# Altium schematic symbol library Interface.SchLib: 28 symbols
Pins are listed as number, name and electrical type; pins without a type are passive.

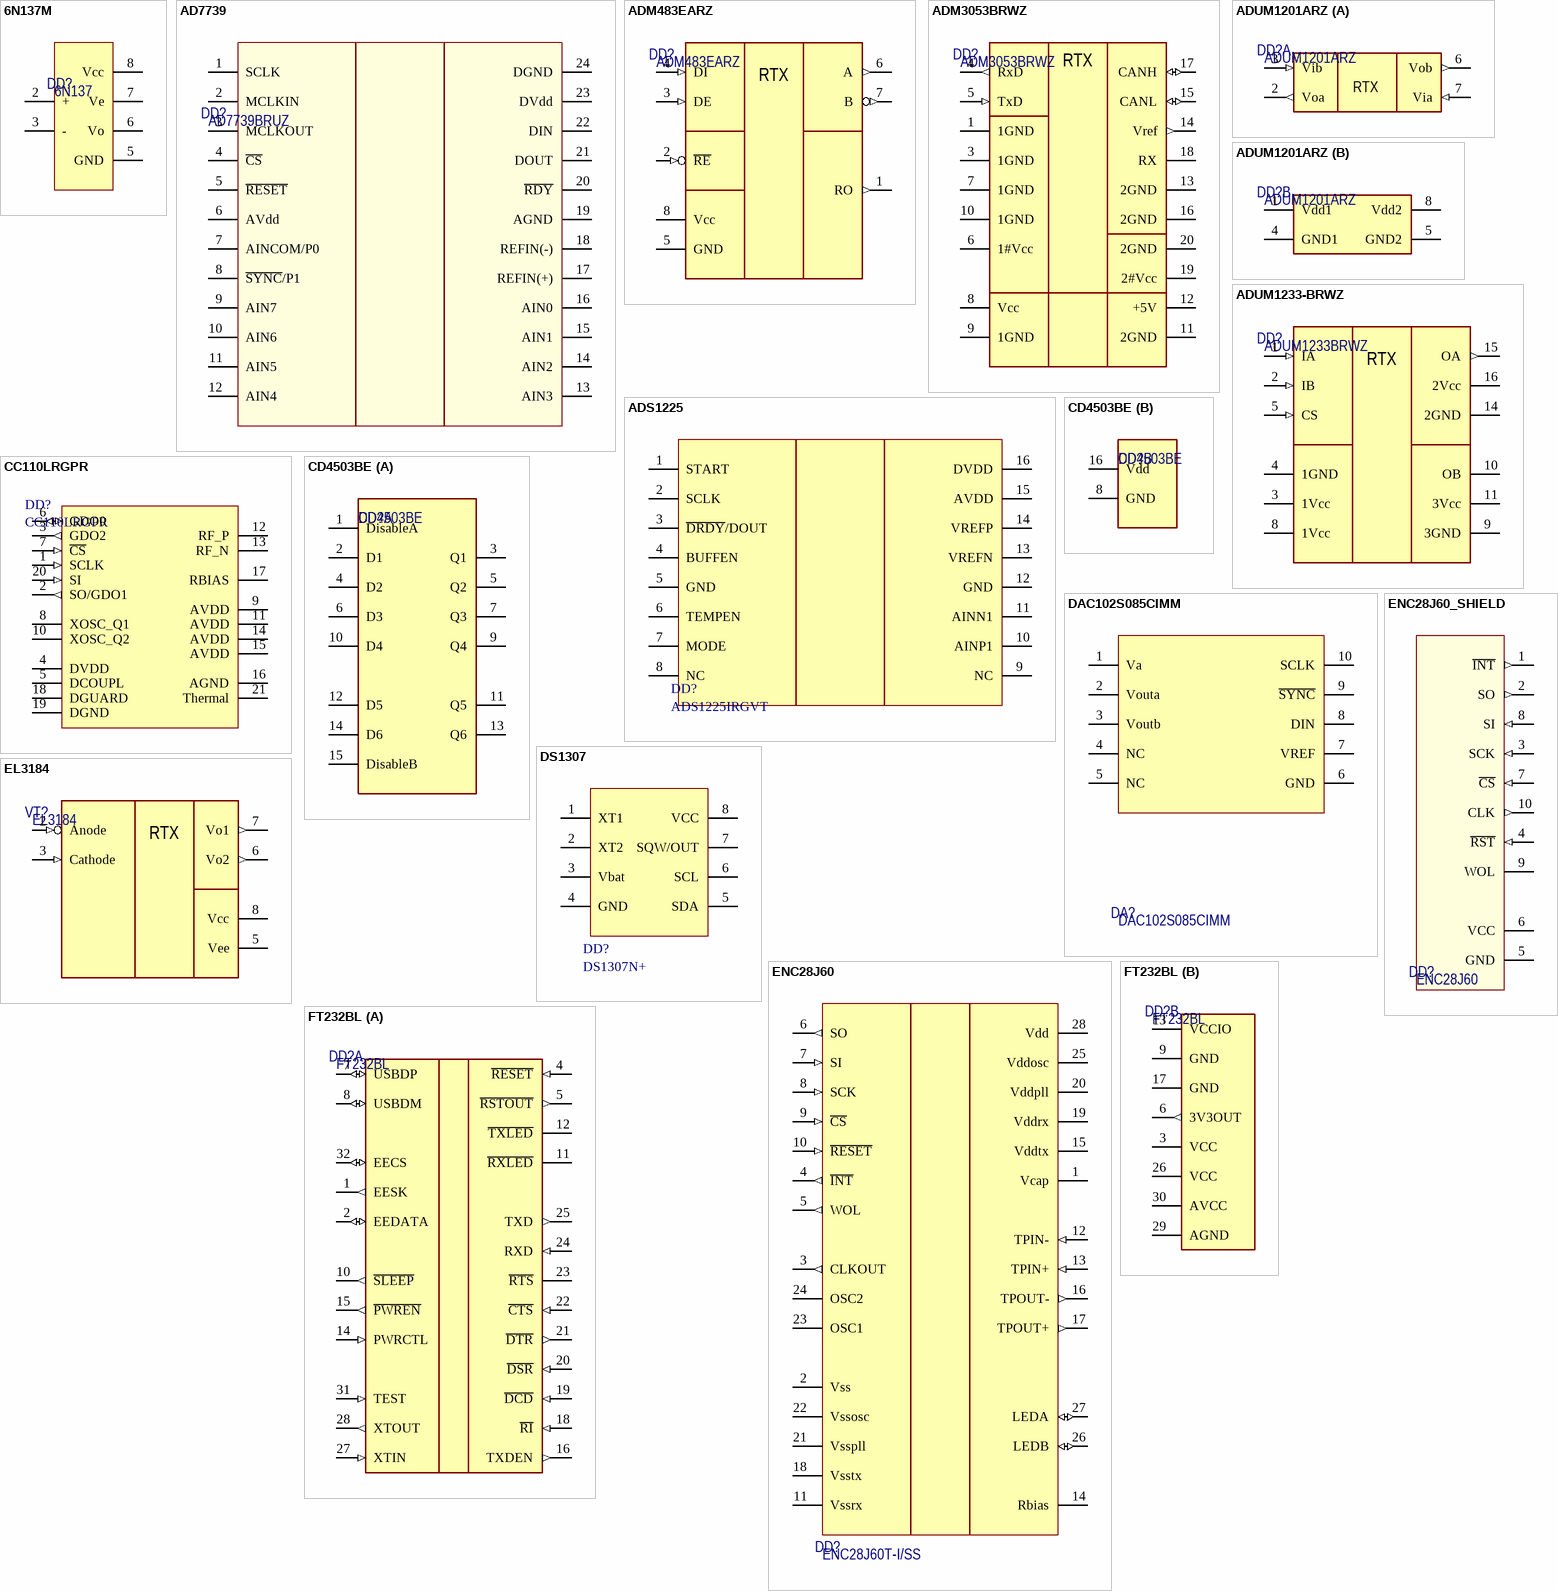
[diagram p0: symbols 6N137M to FT232BL]

## 6N137M
designator DD?, comment 6N137
Optocoupler; Manufacturer: Fairchild; ManufacturerPartNumber: 6N137M; Package: DIP-8; Price: 30.26; Note: 6N137; Supplier: Промэлектроника
footprint DIP8
pins: 2 + "Input diode Anode", 3 - "Input diode Cathode", 5 GND (power) "Input diode Anode", 6 Vo (oc) "Input diode Anode", 7 Ve "Enable", 8 Vcc (power) "Power input"

## AD7739
designator DD?, comment AD7739BRUZ
IC ADC 24BIT 8-CH 24-TSSOP; Manufacturer: Analog Devices Inc.; ManufacturerPartNumber: AD7739BRUZ; ComponentLink1URL: http://www.analog.com/media/en/technical-documentation/data-sheets/AD7739.pdf; ComponentLink1Description: http://www.analog.com/media/en/technical-documentation/data-sheets/AD7739.pdf; Note: *; Price: 900; Supplier: *
footprint TSSOP-RU-24 (TSOP, 24-Leads, Body 7,80x4,40mm, Pitch 0,65mm, IPC Low Density)
pins: 1 SCLK, 2 MCLKIN, 3 MCLKOUT, 4 ~{CS}, 5 ~{RESET}, 6 AVdd, 7 AINCOM/P0, 8 ~{SYNC}/P1, 9 AIN7, 10 AIN6, 11 AIN5, 12 AIN4, 13 AIN3, 14 AIN2, 15 AIN1, 16 AIN0, 17 REFIN(+), 18 REFIN(-), 19 AGND, 20 ~{RDY}, 21 DOUT, 22 DIN, 23 DVdd, 24 DGND

## ADM483EARZ
designator DD?
Isolator interface; Manufacturer: Analog Devices Inc.; Package: DIP-8; ComponentLink1URL: http://www.analog.com/static/imported-files/data_sheets/ADM483E.pdf; ComponentLink1Description: Datasheet; Price: 62,10; Supplier: Промэлектроника; ComponentLink2Description: Datasheet-local; ManufacturerPartNumber: ADM483EARZ
footprint DIP8
pins: 1 RO (out), 2 ~{RE} (in), 3 DE (in), 4 DI (in), 5 GND (power), 6 A (out), 7 B (out), 8 Vcc (power)
2 alternate drawings of the same symbol
text: RTX

## ADM3053BRWZ
designator DD?
CAN; Manufacturer: Analog Devices Inc; Package: SOIC-20; ComponentLink1Description: Datasheet; ComponentLink1URL: http://www.analog.com/static/imported-files/data_sheets/ADM3053.pdf; Price: 310; Supplier: Аргуссофт; ComponentLink2URL: .\datasheet\ADM3053.pdf; ComponentLink2Description: Datasheet-local; ManufacturerPartNumber: ADM3053BRWZ
footprint SOIC_W (20-Lead SOIC_W, Body 12,80x7,50mm, Pitch 1,27mm, IPC Low Density)
pins: 1 1GND (power) "GND1", 3 1GND (power) "GND1", 4 RxD (out), 5 TxD (in), 6 1#Vcc (power) "Vio", 7 1GND (power) "GND1", 8 Vcc (power), 9 1GND (power) "GND1", 10 1GND (power) "GND1", 11 2GND, 12 +5V "Visoout", 13 2GND (power) "GND2", 14 Vref (out), 15 CANL (io), 16 2GND, 17 CANH (io), 18 RX "Rs", 19 2#Vcc "Visoin", 20 2GND
text: RTX

## ADS1225
designator DD?, comment ADS1225IRGVT
IC ADC 24-BIT 16/100SPS 16-VQFN; Manufacturer: Texas Instruments (TI); Min Supply Voltage: 2.7V; Max Supply Voltage: 5.5V; Max Power Dissipation: 2.5mW; Interface: SPI,Serial,2-Wire; Sampling Rate: 100S/s; Number of A/D Converters: 1; Resolution: 24b; Polarity: Bipolar; Power Dissipation: 1.6mW; Supply Voltage: 5V; Number of Bits: 24; Nominal Supply Current: 405uA; Supply Type: Analog,Digital; Differential Nonlinearity: 1LSB; Supplier 1: Digikey; ManufacturerPartNumber: ADS1225IRGVT; Stock 1: 0; Pricing 1: 250=4.896, 500=4.464, 1250=3.6 (USD); Mount: Surface Mount; Case/Package: QFN; Number of Pins: 16; Contact Plating: Gold; Min Operating Temperature: -40°C; Max Operating Temperature: 105°C; Packaging: Tape and Reel; Package Quantity: 250; Number of Converters: 1; Number of Analog Inputs: 1; Conversion Rate: 100S/s; Power Consumption: 1.6mW; Number of Channels: 1; Number of Circuits: 1; Number of Elements: 1; Number of Inputs: 1; Length: 4mm; Height: 0.9mm; Width: 4mm; Lead Free: Lead Free; REACH SVHC: No SVHC; ComponentLink1URL: https://datasheet.ciiva.com/26801/ads1225irgvt-26801479.pdf; ComponentLink1Description: https://datasheet.ciiva.com/26801/ads1225irgvt-26801479.pdf; ComponentLink2URL: https://datasheet.ciiva.com/1261/ads1225-1261992.pdf; ComponentLink2Description: https://datasheet.ciiva.com/1261/ads1225-1261992.pdf; ComponentLink3URL: https://datasheet.ciiva.com/1261/ads1225-1261993.pdf; ComponentLink3Description: https://datasheet.ciiva.com/1261/ads1225-1261993.pdf; ComponentLink4URL: https://datasheet.ciiva.com/1261/ads1225-1261991.pdf; ComponentLink4Description: https://datasheet.ciiva.com/1261/ads1225-1261991.pdf; ComponentLink5URL: https://datasheet.ciiva.com/41461/001186706-da-01-en-ic-adc-24-bit-1-ads1225irgvt-vqfn-16-tid-41461046.pdf; ComponentLink5Description: https://datasheet.ciiva.com/41461/001186706-da-01-en-ic-adc-24-bit-1-ads1225irgvt-vqfn-16-tid-41461046.pdf; Supplier Part Number 1: 296-19857-2-ND
footprint PQFN65P400X400X100_HS-17N (PQFN, 16-Leads, Body 4,00x4,00mm, Pitch 0,65mm, Thermal Pad 2,16x2,16mm, IPC Medium Density)
pins: 1 START, 2 SCLK, 3 ~{DRDY}/DOUT, 4 BUFFEN, 5 GND, 6 TEMPEN, 7 MODE, 8 NC, 9 NC, 10 AINP1, 11 AINN1, 12 GND, 13 VREFN, 14 VREFP, 15 AVDD, 16 DVDD

## ADUM1201ARZ
designator DD?
Digital Isolator Logic 2-CH 1Mbps 8-Pin SOIC N; Manufacturer: Analog Devices Inc.; Package: SOIC-8; ComponentLink1URL: http://www.analog.com/static/imported-files/data_sheets/ADuM1200_1201.pdf; ComponentLink1Description: Datasheet; Price: ?; Supplier: Промэлектроника; ManufacturerPartNumber: ADUM1201ARZ
footprint AD711JRZ (8-Lead Standard Small Outline Package [SOIC]  Narrow Body  (RN-8))
part A pins: 2 Voa (out), 3 Vib (in), 6 Vob (out), 7 Via (in)
part B pins: 1 Vdd1 (power), 4 GND1 (power), 5 GND2 (power), 8 Vdd2 (power)
part A text: RTX

## ADUM1233-BRWZ
designator DD?, comment ADUM1233BRWZ
Isolator interface; Manufacturer: Analog Devices Inc.; Package: SOIC-16; ComponentLink1URL: http://www.analog.com/static/imported-files/data_sheets/ADUM1233.pdf; ComponentLink1Description: Datasheet; Price: 90; Supplier: Аргуссофт; ManufacturerPartNumber: ADUM1233BRWZ
footprint ADUM1233-BRWZ (16-Lead Standard Small Outline Package [SOIC_W]   Wide Body   (RW-16))
pins: 1 IA (in) "Via (Logic Input A)", 2 IB (in) "Vib (Logic Input B)", 3 1Vcc (power) "Vdd1 (Input Supply Voltage)", 4 1GND (power) "Ground Reference for logic signals", 5 CS (in) "DISABLE (Input Disalbe. Disable the isolator input and refresh circuits)", 8 1Vcc (power) "Vdd1 (Input Supply Voltage, 4.5 to 5.5V)", 9 3GND (power) "GNDb (Ground reference for Output B)", 10 OB (power) "Vob (Output B)", 11 3Vcc (power) "Vddb (Output B Supply voltage, 12V to 18V)", 14 2GND (power) "GNDa (Ground reference for Output A)", 15 OA (out) "Voa (Output A)", 16 2Vcc (power) "Vdda (Output A Supply voltage, 12V to 18V)"
text: RTX

## CC110LRGPR
designator DD?
IC RF VALUE LINE TXRX 20QFN; Manufacturer: Texas Instruments; Data Rate: 600Kbps; Frequency: 915MHz; Interface: SPI; Number of Receivers: 1; Max Supply Voltage: 3.6V; Min Supply Voltage: 1.8V; Sensitivity: -116dBm; Max Frequency: 928MHz; Density: 0B; Current - Receiving: 17.1mA; Current - Transmitting: 34.2mA; Supplier 1: Avnet; Manufacturer Part Number: CC110LRGPR; Stock 1: 3000; Pricing 1: 1=3.7881, 30=3.3748, 75=3.1453, 150=2.8775, 375=2.5254, 750=2.4423, 1500=2.4362 (USD); Mount: Surface Mount; Case/Package: VQFN EP; Number of Pins: 20; Weight: 0.002469oz; Contact Plating: Nickel,Gold; Min Operating Temperature: -40°C; Max Operating Temperature: 85°C; Package Quantity: 3000; Packaging: Tape and Reel; Number of Transmitters: 1; Length: 4.15mm; Depth: 4.15mm; Radiation Hardening: No; REACH SVHC: No SVHC; Lead Free: Lead Free; ComponentLink1URL: https://datasheet.ciiva.com/26933/getdatasheetpartid-731781-26933479.pdf; ComponentLink1Description: https://datasheet.ciiva.com/26933/getdatasheetpartid-731781-26933479.pdf; ComponentLink2URL: https://datasheet.ciiva.com/46417/1816570-46417702.pdf; ComponentLink2Description: https://datasheet.ciiva.com/46417/1816570-46417702.pdf; ComponentLink3URL: https://datasheet.ciiva.com/46417/1816570-46417701.pdf; ComponentLink3Description: https://datasheet.ciiva.com/46417/1816570-46417701.pdf; Supplier Part Number 1: CC110LRGPR/BKN
footprint PQFN20 (PQFN, 20-Leads, Body 4,00x4,00mm, Pitch 0,50mm, Thermal Pad 2,40x2,40mm, IPC Medium Density)
pins: 1 SCLK (in) "Serial configuration interface, clock input", 2 SO/GDO1 (out) "Serial configuration interface, data output", 3 GDO2 (out) "Digital output pin for general use:", 4 DVDD (power) "1.8 - 3.6 V digital power supply for digital I/O's and for the digital core voltage regulator", 5 DCOUPL (power) "1.6 - 2.0 V digital power supply output for decoupling", 6 GDO0 (io) "Digital output pin for general use:", 7 ~{CS} (in) "Serial configuration interface, chip select", 8 XOSC_Q1 "Designator	Name	Desc	PQFN20	Type	Owner	Show	Number	Name	Pin/Pkg Length", 9 AVDD (power) "1.8 - 3.6 V analog power supply connection", 10 XOSC_Q2 "Crystal oscillator pin 2", 11 AVDD (power) "1.8 - 3.6 V analog power supply connection", 12 RF_P "Positive RF input signal to LNA in receive mode. from PA in transmit mode", 13 RF_N "Negative RF input signal to LNA in receive mode. from PA in transmit mode", 14 AVDD (power) "1.8 - 3.6 V analog power supply connection", 15 AVDD (power) "1.8 - 3.6 V analog power supply connection", 16 AGND (power) "Analog ground connection", 17 RBIAS (power) "Exernal bias resistor for reference current", 18 DGUARD (power) "Power supply connection for digital noise isolation", 19 DGND (power) "Ground connection for digital noise isolation", 20 SI (in) "Serial configuration inerface, data input", 21 Thermal (power) "Thermal pad"

## CD4503BE
designator DD?
Буферы и линейные аппаратные драйверы Tri-State Hex; Manufacturer: Texas Instruments; ManufacturerPartNumber: CD4503BE; ComponentLink1URL: http://www.mouser.com/ds/2/405/cd4503b-439724.pdf; ComponentLink1Description: http://www.mouser.com/ds/2/405/cd4503b-439724.pdf; Note: *; Price: 20; Supplier: *
footprint DIP16
part A pins: 1 DisableA, 2 D1, 3 Q1, 4 D2, 5 Q2, 6 D3, 7 Q3, 9 Q4, 10 D4, 11 Q5, 12 D5, 13 Q6, 14 D6, 15 DisableB
part B pins: 8 GND, 16 Vdd

## DAC102S085CIMM
designator DA?
IC DAC 10BIT DUAL 10-MSOP; Manufacturer: Texas Instruments; ManufacturerPartNumber: DAC102S085CIMM; ComponentLink1URL: http://www.ti.com/lit/ds/symlink/dac102s085.pdf; ComponentLink1Description: http://www.ti.com/lit/ds/symlink/dac102s085.pdf; Note: *; Price: *; Supplier: *
footprint MSOP-10
pins: 1 Va, 2 Vouta, 3 Voutb, 4 NC, 5 NC, 6 GND, 7 VREF, 8 DIN, 9 ~{SYNC}, 10 SCLK

## DS1307
designator DD?, comment DS1307N+
IC RTC SERIAL 512K IND 8-DIP; Manufacturer: Maxim; Logic Function: Clock; Max Supply Voltage: 5.5V; Min Supply Voltage: 4.5V; Interface: I2C,Serial,2-Wire; Memory Size: 56B; Supply Voltage: 5V; Supplier 1: Digikey; ManufacturerPartNumber: DS1307N+; Stock 1: 644; Pricing 1: 1=3.71, 10=3.525, 25=3.25, 50=3.0876, 100=2.79, 250=2.6505, 1000=1.9339 (USD); Mount: Through Hole; Case/Package: PDIP; Number of Pins: 8; Weight: 0.032805oz; Contact Plating: Tin; Min Operating Temperature: -40°C; Max Operating Temperature: 85°C; Packaging: Rail/Tube; Package Quantity: 50; Length: 9.91mm; Height: 4.45mm; Width: 7.87mm; Radiation Hardening: No; Lead Free: Lead Free; REACH SVHC: Unknown; ComponentLink1URL: https://datasheet.ciiva.com/30480/0900766b81253c0a-30480875.pdf; ComponentLink1Description: https://datasheet.ciiva.com/30480/0900766b81253c0a-30480875.pdf; ComponentLink2URL: https://datasheet.ciiva.com/19457/1194695-19457341.pdf; ComponentLink2Description: https://datasheet.ciiva.com/19457/1194695-19457341.pdf; ComponentLink3URL: https://datasheet.ciiva.com/3304/ds1307-3304456.pdf; ComponentLink3Description: https://datasheet.ciiva.com/3304/ds1307-3304456.pdf; ComponentLink4URL: https://datasheet.ciiva.com/1240/ds1307-1240473.pdf; ComponentLink4Description: https://datasheet.ciiva.com/1240/ds1307-1240473.pdf; Supplier Part Number 1: DS1307N+-ND
footprint DIP8
pins: 1 XT1, 2 XT2, 3 Vbat, 4 GND, 5 SDA, 6 SCL, 7 SQW/OUT, 8 VCC

## EL3184
designator VT?
Optocouple IGBT driver; Manufacturer: Everlight Electronics Co. Ltd; Package: DIP-8; ComponentLink1URL: http://www.promelec.ru/pdf/EL3184-EVLT.pdf; ComponentLink1Description: Datasheet; Price: 67; Supplier: Промэлектроника; ManufacturerPartNumber: EL3184
footprint DIP8
pins: 2 Anode (in), 3 Cathode (in), 5 Vee (power), 6 Vo2 (out), 7 Vo1 (out), 8 Vcc (power)
text: RTX

## ENC28J60
designator DD?, comment ENC28J60T-I/SS
ETHERNET Integrated Circuits; Manufacturer: MICROCHIP TECHNOLOGY; ManufacturerPartNumber: ENC28J60T-I/SS; ComponentLink1URL: http://www.tme.eu/en/details/enc28j60t-i_ss/ethernet-integrated-circuits/microchip-technology/; ComponentLink1Description: http://www.tme.eu/en/details/enc28j60t-i_ss/ethernet-integrated-circuits/microchip-technology/; Supplier: *; Note: *; Price: *
footprint ENC28J60_SSOP (SOP, 28-Leads, Body 10,20x5,30mm, Pitch 0,65mm, IPC Medium Density)
pins: 1 Vcap, 2 Vss (power), 3 CLKOUT (out), 4 ~{INT} (out), 5 WOL (out), 6 SO (out), 7 SI (in), 8 SCK (in), 9 ~{CS} (in), 10 ~{RESET} (in), 11 Vssrx (power), 12 TPIN- (in), 13 TPIN+ (in), 14 Rbias, 15 Vddtx (power), 16 TPOUT- (out), 17 TPOUT+ (out), 18 Vsstx (power), 19 Vddrx (power), 20 Vddpll (power), 21 Vsspll (power), 22 Vssosc (power), 23 OSC1, 24 OSC2, 25 Vddosc (power), 26 LEDB (io), 27 LEDA (io), 28 Vdd (power)

## ENC28J60_SHIELD
designator DD?, comment ENC28J60
Ethernet Module; Manufacturer: *; ManufacturerPartNumber: *; Price: *; Note: *; Supplier: *
footprint SHIELD_Ethernet (Ethernet shield (почти))
pins: 1 ~{INT} (out), 2 SO (out), 3 SCK (in), 4 ~{RST} (in), 5 GND (power), 6 VCC (power), 7 ~{CS} (in), 8 SI (in), 9 WOL, 10 CLK (out)

## FT232BL
designator DD?
UART-USB; Manufacturer: FTDI; Package: SOIC-20; ComponentLink1Description: Datasheet; ComponentLink1URL: http://www.ftdichip.com/Support/Documents/DataSheets/ICs/DS_FT232BL_BQ.pdf; Supplier: Аргуссофт; ManufacturerPartNumber: FT232BL
footprint FT232BL (LQFP, 32-Leads, Body 7,00x7,00mm, Pitch 0,80mm, IPC Low Density)
part A pins: 1 EESK (out), 2 EEDATA (io), 4 ~{RESET} (in) "Active low reset pin. This can be used by an external device to reset the FT232. If not required can be left unconnected, or pulled up to VCC", 5 ~{RSTOUT} (out), 7 USBDP (io), 8 USBDM (io), 10 ~{SLEEP} (out), 11 ~{RXLED} (oc), 12 ~{TXLED} (oc), 14 PWRCTL (in), 15 ~{PWREN} (out), 16 TXDEN (out), 18 ~{RI} (in), 19 ~{DCD} (in), 20 ~{DSR} (in), 21 ~{DTR} (out), 22 ~{CTS} (in), 23 ~{RTS}, 24 RXD (in), 25 TXD (out), 27 XTIN (in), 28 XTOUT (out), 31 TEST (in), 32 EECS (io)
part B pins: 3 VCC (power), 6 3V3OUT (out) "3.3 volt Output from the integrated LDO regulator. This pin should be decouled to GND using a 33nF ceramic capacitor in close proximity to the device pin. Its prime purpose is to provide internal 3.3 supply to the USB transceiver cell and the RSTOUT# pin. A small amount of current (<=5mA) can be drawn from this pin to power external 3.3v logic if required.", 9 GND (power) "Device ground supply pins", 13 VCCIO (power) "+3.0 volt to +5.25 volt VCC to the UART interface pins 10...12, 14...16 and   18...25. When interfacing with 3.3V external logic in a bus powered design connect   VCCIO to a 3.3V supply generated from the USB bus. When interfacing with 3.3V   external logic in a self powered design connect VCCIO to the 3.3V supply of the   external logic. Otherwise connect to VCC to drive out at 5V", 17 GND (power), 26 VCC (power), 29 AGND "Device analogue ground supply for internal x8 vlock multiplier", 30 AVCC (power) "Device analogue power supply for internal x8 clock multiplier"

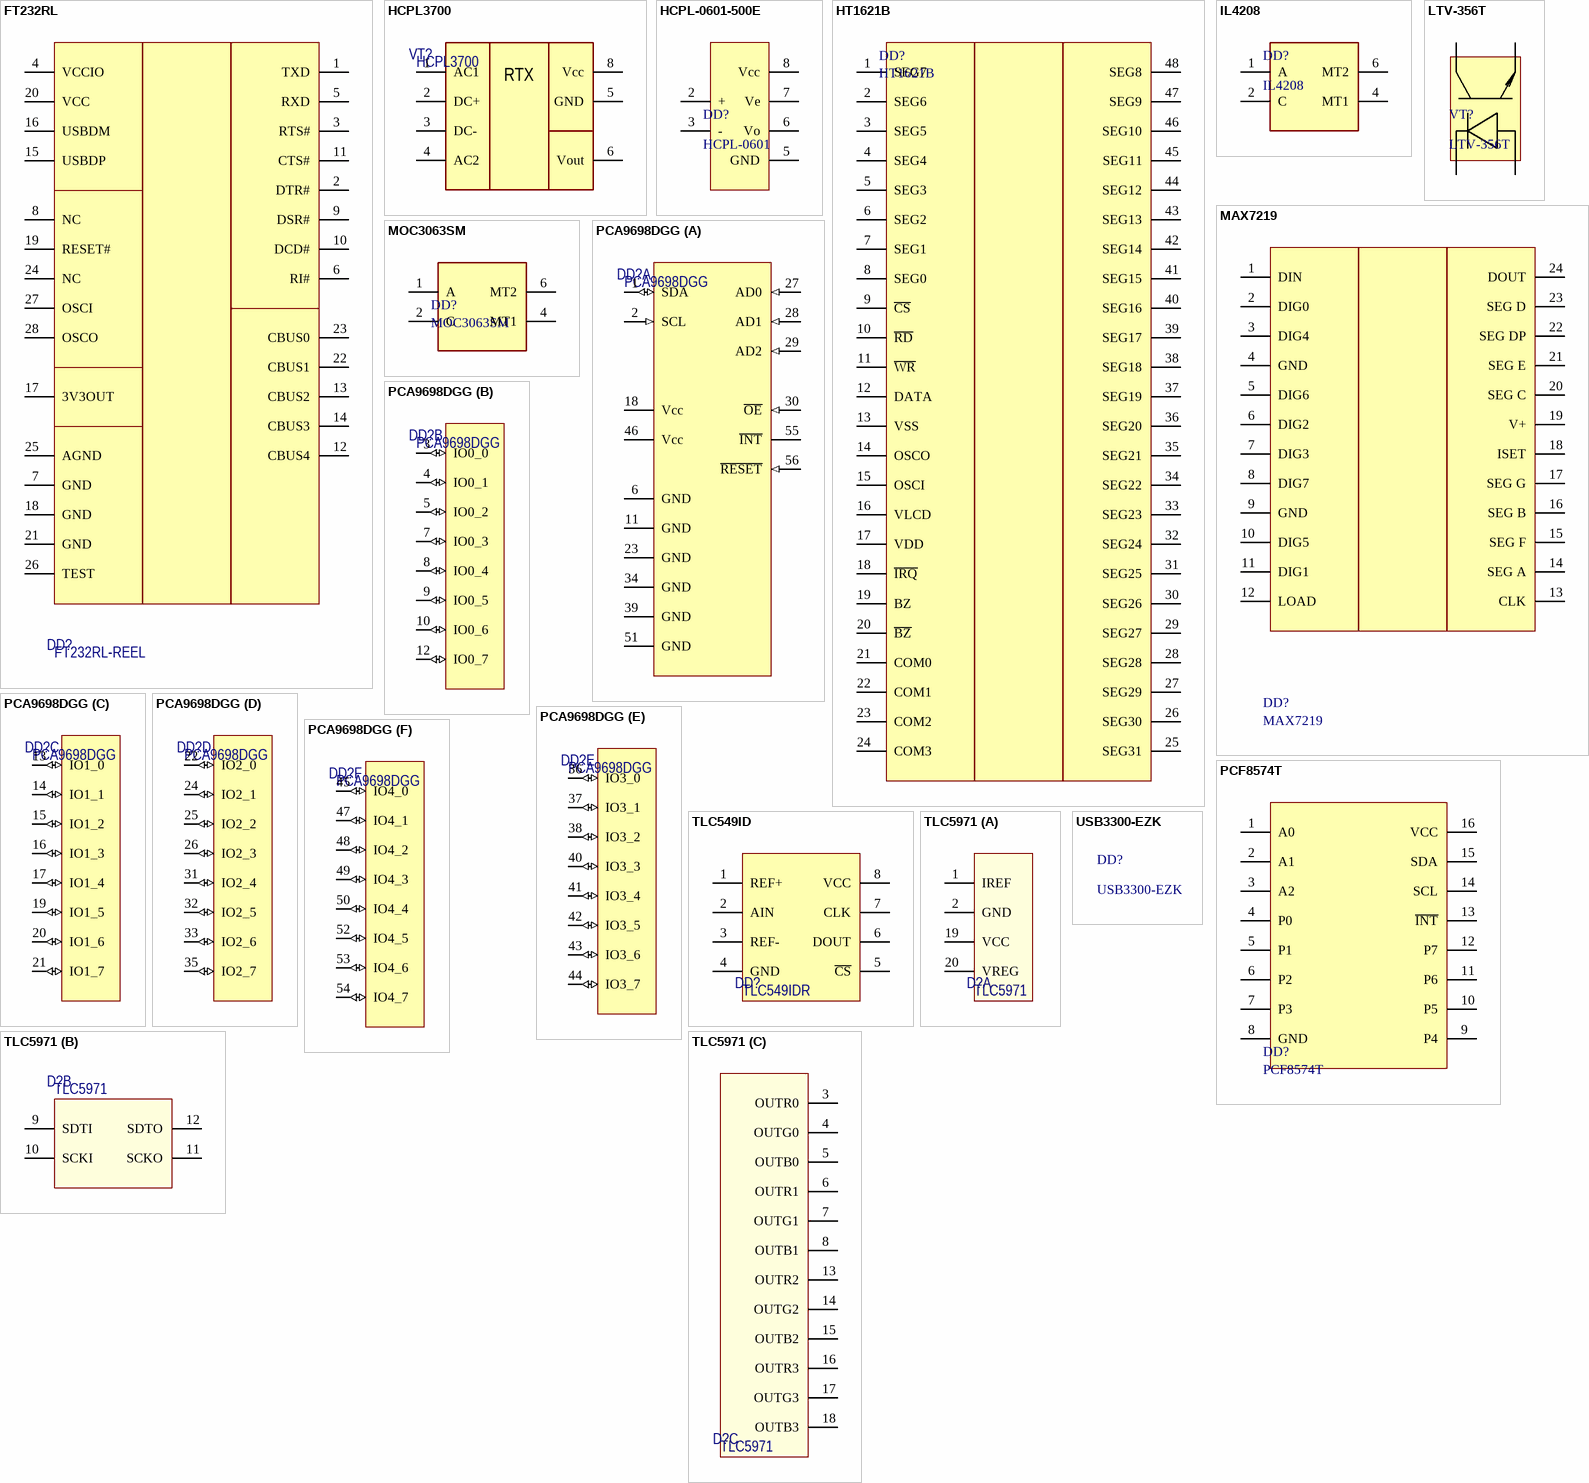
[diagram p1: symbols FT232RL to USB3300-EZK]

## FT232RL
designator DD?, comment FT232RL-REEL
FTDI - FT232RL-REEL - IC, USB TO UART, SMD, 28SSOP; Manufacturer: FTDI; ManufacturerPartNumber: FT232RL-REEL; ComponentLink1URL: http://www.farnell.com/datasheets/1647396.pdf; ComponentLink1Description: http://www.farnell.com/datasheets/1647396.pdf; Note: *; Price: *; Supplier: *
footprint FT232RL (SOP, 28-Leads, Body 10,20x5,30mm, Pitch 0,65mm, IPC Medium Density)
pins: 1 TXD, 2 DTR#, 3 RTS#, 4 VCCIO, 5 RXD, 6 RI#, 7 GND, 8 NC, 9 DSR#, 10 DCD#, 11 CTS#, 12 CBUS4, 13 CBUS2, 14 CBUS3, 15 USBDP, 16 USBDM, 17 3V3OUT, 18 GND, 19 RESET#, 20 VCC, 21 GND, 22 CBUS1, 23 CBUS0, 24 NC, 25 AGND, 26 TEST, 27 OSCI, 28 OSCO

## HCPL3700
designator VT?
AC/DC to Logic Interface Optocoupler; Manufacturer: Everlight Electronics Co. Ltd; Package: DIP-8; ComponentLink1URL: https://www.fairchildsemi.com/datasheets/HC/HCPL3700.pdf; ComponentLink1Description: Datasheet; Price: 67; Supplier: Промэлектроника; ManufacturerPartNumber: HCPL3700
footprint DIP8
pins: 1 AC1, 2 DC+, 3 DC-, 4 AC2, 5 GND, 6 Vout, 8 Vcc
text: RTX

## HCPL-0601-500E
designator DD?, comment HCPL-0601
OPTOISO 3.75KV OPN COLLECTOR 8SO; Manufacturer: Fairchild Semiconductor; Forward Voltage: 1.75V; Forward Current: 50mA; Propagation Delay: 75ns; Reverse Breakdown Voltage: 5V; Rise Time: 50ns; Number of Channels: 1; Max Power Dissipation: 85mW; Data Rate: 10Mbps; Fall Time: 12ns; Direction: Unidirectional; Input Current: 15mA; Max Output Voltage: 7V; Polarity: Inverting; Supplier 1: Mouser; ManufacturerPartNumber: HCPL-0601; Stock 1: 5013; Pricing 1: 1=2.35, 10=2, 100=1.6, 500=1.4, 1000=1.16, 3000=1.07, 6000=1.03, 9000=0.958 (USD); Mount: Surface Mount; Case/Package: SOIC; Number of Pins: 8; Weight: 0.252g; Min Operating Temperature: -40°C; Max Operating Temperature: 85°C; Output Current: 50mA; Packaging: Rail/Tube; Package Quantity: 3000; Output Current per Channel: 50mA; Number of Elements: 1; Power Dissipation: 85mW; Turn-On Delay Time: 75ns; Isolation Voltage: 3.75kV; Max Input Current: 15mA; Output Voltage: 7V; Max Output Current: 50mA; Reverse Voltage (DC): 5V; Length: 5.13mm; Height: 3.43mm; Width: 4.16mm; Radiation Hardening: No; Lead Free: Lead Free; REACH SVHC: No SVHC; ComponentLink1URL: https://datasheet.ciiva.com/4698/hcpl0601-185320-4698727.pdf; ComponentLink1Description: https://datasheet.ciiva.com/4698/hcpl0601-185320-4698727.pdf; ComponentLink2URL: https://datasheet.ciiva.com/11772/0900766b80d1f17b-11772100.pdf; ComponentLink2Description: https://datasheet.ciiva.com/11772/0900766b80d1f17b-11772100.pdf; ComponentLink3URL: https://datasheet.ciiva.com/26912/hcpl0601-26912362.pdf; ComponentLink3Description: https://datasheet.ciiva.com/26912/hcpl0601-26912362.pdf; ComponentLink4URL: https://datasheet.ciiva.com/2083/hcpl0611-2083487.pdf; ComponentLink4Description: https://datasheet.ciiva.com/2083/hcpl0611-2083487.pdf; ComponentLink5URL: https://datasheet.ciiva.com/26162/hcpl0611-26162959.pdf; ComponentLink5Description: https://datasheet.ciiva.com/26162/hcpl0611-26162959.pdf; ComponentLink6URL: https://datasheet.ciiva.com/26910/getdatasheetpartid-81668-26910220.pdf; ComponentLink6Description: https://datasheet.ciiva.com/26910/getdatasheetpartid-81668-26910220.pdf; ComponentLink7URL: https://datasheet.ciiva.com/8074/1796808-8074123.pdf; ComponentLink7Description: https://datasheet.ciiva.com/8074/1796808-8074123.pdf; ComponentLink8URL: https://datasheet.ciiva.com/8100/hcpl0611-8100123.pdf; ComponentLink8Description: https://datasheet.ciiva.com/8100/hcpl0611-8100123.pdf; Supplier Part Number 1: 512-HCPL0601
footprint HCPL-1601 (SOIC, 8-Leads, Body 5,21x3,94mm, Pitch 1,27mm, IPC Medium Density)
pins: 2 + "Input diode Anode", 3 - "Input diode Cathode", 5 GND (power) "Input diode Anode", 6 Vo (oc) "Input diode Anode", 7 Ve "Enable", 8 Vcc (power) "Power input"

## HT1621B
designator DD?
RAM Mapping 32 4 LCD Controller for I/O MCU; Manufacturer: Holtek; ManufacturerPartNumber: HT1621B
footprint SOP64P1030X280-48N (SOP, 48-Leads, Body 15,90x7,50mm, Pitch 0,64mm, IPC Medium Density)
pins: 1 SEG7, 2 SEG6, 3 SEG5, 4 SEG4, 5 SEG3, 6 SEG2, 7 SEG1, 8 SEG0, 9 ~{CS}, 10 ~{RD}, 11 ~{WR}, 12 DATA, 13 VSS, 14 OSCO, 15 OSCI, 16 VLCD, 17 VDD, 18 ~{IRQ}, 19 BZ, 20 ~{BZ}, 21 COM0, 22 COM1, 23 COM2, 24 COM3, 25 SEG31, 26 SEG30, 27 SEG29, 28 SEG28, 29 SEG27, 30 SEG26, 31 SEG25, 32 SEG24, 33 SEG23, 34 SEG22, 35 SEG21, 36 SEG20, 37 SEG19, 38 SEG18, 39 SEG17, 40 SEG16, 41 SEG15, 42 SEG14, 43 SEG13, 44 SEG12, 45 SEG11, 46 SEG10, 47 SEG9, 48 SEG8

## IL4208
designator DD?
Optotriac; 5.3kV; Uout:800V; DIP6; Manufacturer: VISHAY; Unit: pcs; SuppliedAmount: 0; MinAmount: 1; Output voltage: 800V; Output type: without zero voltage crossing driver; Off state voltage max.: 6V; Trigger current: 2mA; Supplier 1: TME; ManufacturerPartNumber: IL4208; Category: Optotriacs; Stock 1: 101; Pricing 1: 1=2,66, 5=2,4, 25=2,21, 100=1,88 (USD); Weight: 0,44; Multiples: 1; Price Type: NET; Type of semiconductor component: optotriac; Insulation voltage: 5.3kV; Case: DIP6; Mounting: THT; ComponentLink1URL: http://www.tme.eu/en/details/il4208/optotriacs/vishay/; ComponentLink1Description: http://www.tme.eu/en/details/il4208/optotriacs/vishay/; Supplier Part Number 1: IL4208
footprint DIP6
pins: 1 A (power), 2 C (power), 4 MT1 (power), 6 MT2 (power)

## LTV-356T
designator VT?
Optoisolator Transistor Output 3750Vrms 1 Channel 4-SOP (2.54mm); Manufacturer: Vishay Lite-On; Number of Channels: 1; Max Output Voltage: 80V; Rise Time: 18000ns; Reverse Breakdown Voltage: 6V; Forward Voltage: 1.4V; Forward Current: 50mA; Max Power Dissipation: 170mW; Collector Emitter Saturation Voltage: 200mV; Isolation Voltage: 3.75kV; Current Transfer Ratio: 600%; Supplier 1: Digi-Key; ManufacturerPartNumber: LTV-356T; Stock 1: 84509; Pricing 1: 1=0.56, 10=0.404, 25=0.33, 100=0.264, 250=0.2228, 500=0.1898, 1000=0.1485 (USD); Mount: Surface Mount; Case/Package: SMD/SMT; Number of Pins: 4; Min Operating Temperature: -55°C; Max Operating Temperature: 110°C; Packaging: Tape and Reel; Package Quantity: 750; Collector Emitter Voltage (VCEO): 80V; Max Collector Current: 50mA; Output Current per Channel: 50mA; Max Input Current: 50mA; Fall Time: 18000ns; Number of Elements: 1; Power Dissipation: 170mW; Number of Circuits: 1; Output Voltage: 80V; Length: 3.6mm; Height: 2mm; Width: 4.4mm; Radiation Hardening: No; Lead Free: Lead Free; ComponentLink1URL: https://datasheet.ciiva.com/16216/ltv-356t-16216247.pdf; ComponentLink1Description: https://datasheet.ciiva.com/16216/ltv-356t-16216247.pdf; ComponentLink2URL: https://datasheet.ciiva.com/15118/getdatasheetpartid-214494-15118908.pdf; ComponentLink2Description: https://datasheet.ciiva.com/15118/getdatasheetpartid-214494-15118908.pdf; ComponentLink3URL: https://datasheet.ciiva.com/2086/ltv-356t-2086199.pdf; ComponentLink3Description: https://datasheet.ciiva.com/2086/ltv-356t-2086199.pdf; ComponentLink4URL: https://datasheet.ciiva.com/11771/0900766b80de6af0-11771730.pdf; ComponentLink4Description: https://datasheet.ciiva.com/11771/0900766b80de6af0-11771730.pdf; ComponentLink5URL: https://datasheet.ciiva.com/12243/ltv-356tseries-1308-301539-12243030.pdf; ComponentLink5Description: https://datasheet.ciiva.com/12243/ltv-356tseries-1308-301539-12243030.pdf; ComponentLink6URL: https://datasheet.ciiva.com/2086/s-110-ltv-356t20140520-2086201.pdf; ComponentLink6Description: https://datasheet.ciiva.com/2086/s-110-ltv-356t20140520-2086201.pdf; ComponentLink7URL: https://datasheet.ciiva.com/2086/s-110-ltv-356t20140520-2086200.pdf; ComponentLink7Description: https://datasheet.ciiva.com/2086/s-110-ltv-356t20140520-2086200.pdf; Supplier Part Number 1: 160-1337-1-ND
footprint SOP-4 (SOP, 4-Leads, Body 4,40x3,60mm, Pitch 2,54mm, IPC Medium Density)
pins: 1, 2, 3, 4

## MAX7219
designator DD?
LED Display Drivers 8-Digit; Manufacturer: Maxim; Manufacturer Part Number: MAX7219CWG+T; Max Power Dissipation: 941mW; Number of Segments: 8; Output Current: 320mA; Interface: Serial; Operating Supply Current: 330mA; Low Level Output Current: 5mA; High Level Output Current: -2mA; Min Input Voltage: 4V; Max Input Voltage: 5.5V; Number of Outputs: 16; Switching Frequency: 10MHz; Supplier 1: Digikey; Stock 1: 573; Pricing 1: 1=12.11, 10=11.424, 25=9.1392, 50=8.6822, 100=7.9968, 250=7.5856, 500=7.3114 (USD); Case/Package: SOIC; Number of Pins: 24; Min Operating Temperature: 0°C; Max Operating Temperature: 70°C; Packaging: Tape and Reel; Package Quantity: 1000; Max Supply Current: 330mA; Power Dissipation: 941mW; Radiation Hardening: No; Lead Free: Lead Free; REACH SVHC: Unknown; ComponentLink1URL: https://datasheet.ciiva.com/26876/max7219cwg-t-26876128.pdf; ComponentLink1Description: https://datasheet.ciiva.com/26876/max7219cwg-t-26876128.pdf; ComponentLink2URL: https://datasheet.ciiva.com/18617/max7219-max7221-18617502.pdf; ComponentLink2Description: https://datasheet.ciiva.com/18617/max7219-max7221-18617502.pdf; ComponentLink3URL: https://datasheet.ciiva.com/18617/max7219-max7221-18617503.pdf; ComponentLink3Description: https://datasheet.ciiva.com/18617/max7219-max7221-18617503.pdf; ComponentLink4URL: https://datasheet.ciiva.com/18617/max7219-max7221-18617501.pdf; ComponentLink4Description: https://datasheet.ciiva.com/18617/max7219-max7221-18617501.pdf; ComponentLink5URL: https://datasheet.ciiva.com/17300/max7219-max7221-17300746.pdf; ComponentLink5Description: https://datasheet.ciiva.com/17300/max7219-max7221-17300746.pdf; ComponentLink6URL: https://datasheet.ciiva.com/3165/max7219-max7221-3165051.pdf; ComponentLink6Description: https://datasheet.ciiva.com/3165/max7219-max7221-3165051.pdf; Supplier Part Number 1: MAX7219CWG+TDKR-ND
footprint SOIC127P1030X265-24N (SOIC, 24-Leads, Body 15,40x7,50mm, Pitch 1,27mm, IPC Medium Density)
pins: 1 DIN, 2 DIG0, 3 DIG4, 4 GND, 5 DIG6, 6 DIG2, 7 DIG3, 8 DIG7, 9 GND, 10 DIG5, 11 DIG1, 12 LOAD, 13 CLK, 14 SEG A, 15 SEG F, 16 SEG B, 17 SEG G, 18 ISET, 19 V+, 20 SEG C, 21 SEG E, 22 SEG DP, 23 SEG D, 24 DOUT

## MOC3063SM
designator DD?
OPTOISOLATOR 4.17KV TRIAC 6SMD; Manufacturer: Fairchild Semiconductor; Number of Channels: 1; Nominal Input Voltage: 1.3V; Max Input Voltage: 1.5V; Forward Current: 60mA; Reverse Breakdown Voltage: 6V; Max Power Dissipation: 250mW; Isolation Voltage: 7.5kV; Hold Current: 500uA; Output Voltage: 600V; Approvals: UL; Supplier 1: Digi-Key; ManufacturerPartNumber: MOC3063SM; Stock 1: 2203; Pricing 1: 1=1.17, 10=0.908, 100=0.6485, 500=0.4928, 1000=0.3891 (USD); Mount: Surface Mount; Case/Package: SMD/SMT; Number of Pins: 6; Weight: 0.81g; Contact Plating: Tin,Matte; Min Operating Temperature: -40°C; Max Operating Temperature: 85°C; Forward Voltage: 1.3V; Packaging: Bulk; Package Quantity: 1000; Number of Elements: 1; Power Dissipation: 250mW; Number of Circuits: 1; Input Current: 60mA; Max Input Current: 60mA; Max Output Voltage: 600V; Length: 8.89mm; Height: 3.53mm; Width: 6.6mm; Radiation Hardening: No; Lead Free: Lead Free; REACH SVHC: No SVHC; ComponentLink1URL: https://datasheet.ciiva.com/27051/1003676-27051197.pdf; ComponentLink1Description: https://datasheet.ciiva.com/27051/1003676-27051197.pdf; ComponentLink2URL: https://datasheet.ciiva.com/25620/0900766b810e2598-25620778.pdf; ComponentLink2Description: https://datasheet.ciiva.com/25620/0900766b810e2598-25620778.pdf; ComponentLink3URL: https://datasheet.ciiva.com/15118/getdatasheetpartid-92568-15118234.pdf; ComponentLink3Description: https://datasheet.ciiva.com/15118/getdatasheetpartid-92568-15118234.pdf; ComponentLink4URL: https://datasheet.ciiva.com/26913/moc3063sm-26913333.pdf; ComponentLink4Description: https://datasheet.ciiva.com/26913/moc3063sm-26913333.pdf; ComponentLink5URL: https://datasheet.ciiva.com/22654/1688212-22654367.pdf; ComponentLink5Description: https://datasheet.ciiva.com/22654/1688212-22654367.pdf; ComponentLink6URL: https://datasheet.ciiva.com/2093/moc3061m-2093103.pdf; ComponentLink6Description: https://datasheet.ciiva.com/2093/moc3061m-2093103.pdf; ComponentLink7URL: https://datasheet.ciiva.com/26217/moc3061m-26217097.pdf; ComponentLink7Description: https://datasheet.ciiva.com/26217/moc3061m-26217097.pdf; ComponentLink8URL: https://datasheet.ciiva.com/17381/moc3061m-17381290.pdf; ComponentLink8Description: https://datasheet.ciiva.com/17381/moc3061m-17381290.pdf; Supplier Part Number 1: MOC3063SM-ND
footprint SMDIP6 (SMDIP-6)
pins: 1 A (power), 2 C (power), 4 MT1 (power), 6 MT2 (power)

## PCA9698DGG
designator DD?
I2C GPIO Expander; Manufacturer: NXP; ManufacturerPartNumber: PCA9698DGG; ComponentLink1URL: http://www.nxp.com/docs/en/data-sheet/PCA9698.pdf; ComponentLink1Description: Datasheet; Price: 200
footprint TSSOP56 (SOT364-1) (TSSOP, 56-Leads, Body 14,00x6,10mm, Pitch 0,50mm, IPC High Density)
part A pins: 1 SDA (io) "Serial data line", 2 SCL (in) "serial clock line", 6 GND (power) "supply ground", 11 GND (power) "supply ground", 18 Vcc (power) "supply voltage", 23 GND (power) "supply ground", 27 AD0 (in) "address input 0", 28 AD1 (in) "address input 1", 29 AD2 (in) "address input 2", 30 ~{OE} (in) "active LOW output enable", 34 GND (power) "power ground", 39 GND (power) "power ground", 46 Vcc (power) "supply voltage", 51 GND (power) "supply ground", 55 ~{INT} (oc) "active LOW interrupt output", 56 ~{RESET} (in) "active LOW reset input"
part B pins: 3 IO0_0 (io), 4 IO0_1 (io), 5 IO0_2 (io), 7 IO0_3 (io), 8 IO0_4 (io), 9 IO0_5 (io), 10 IO0_6 (io), 12 IO0_7 (io)
part C pins: 13 IO1_0 (io), 14 IO1_1 (io), 15 IO1_2 (io), 16 IO1_3 (io), 17 IO1_4 (io), 19 IO1_5 (io), 20 IO1_6 (io), 21 IO1_7 (io)
part D pins: 22 IO2_0 (io), 24 IO2_1 (io), 25 IO2_2 (io), 26 IO2_3 (io), 31 IO2_4 (io), 32 IO2_5 (io), 33 IO2_6 (io), 35 IO2_7 (io)
part E pins: 36 IO3_0 (io), 37 IO3_1 (io), 38 IO3_2 (io), 40 IO3_3 (io), 41 IO3_4 (io), 42 IO3_5 (io), 43 IO3_6 (io), 44 IO3_7 (io)
part F pins: 45 IO4_0 (io), 47 IO4_1 (io), 48 IO4_2 (io), 49 IO4_3 (io), 50 IO4_4 (io), 52 IO4_5 (io), 53 IO4_6 (io), 54 IO4_7 (io)

## PCF8574T
designator DD?
I/O Expander, 8bit, 100 kHz, I2C; Manufacturer: NXP Semiconductors; Number of I/Os: 8; Min Supply Voltage: 2.5V; Max Supply Voltage: 6V; Frequency: 100KHz; Supplier 1: Arrow; ManufacturerPartNumber: PCF8574T; Stock 1: 0; Case/Package: SOIC; Number of Pins: 16; Min Operating Temperature: -40°C; Max Operating Temperature: 85°C; Interface: I2C; Termination: SMD/SMT; REACH SVHC: No SVHC; ComponentLink1URL: https://datasheet.ciiva.com/1167/99095-1167608.pdf; ComponentLink1Description: https://datasheet.ciiva.com/1167/99095-1167608.pdf; ComponentLink2URL: https://datasheet.ciiva.com/1167/1716973-1167607.pdf; ComponentLink2Description: https://datasheet.ciiva.com/1167/1716973-1167607.pdf; Supplier Part Number 1: PCF8574T
footprint SOIC127P600X175-16N (SOIC, 16-Leads, Body 9,90x3,90mm, Pitch 1,27mm, IPC Medium Density)
pins: 1 A0, 2 A1, 3 A2, 4 P0, 5 P1, 6 P2, 7 P3, 8 GND, 9 P4, 10 P5, 11 P6, 12 P7, 13 ~{INT}, 14 SCL, 15 SDA, 16 VCC

## TLC549ID
designator DD?, comment TLC549IDR
ADC 8-Bit 40kSPS Serial Out Lo-Pwr; Manufacturer: Texas Instruments; ManufacturerPartNumber: TLC549IDR; ComponentLink1URL: http://www.mouser.com/ds/2/405/tlc549-449055.pdf; ComponentLink1Description: http://www.mouser.com/ds/2/405/tlc549-449055.pdf; Note: *; Price: *; Supplier: *
footprint SOIC-8
pins: 1 REF+, 2 AIN, 3 REF-, 4 GND, 5 ~{CS}, 6 DOUT, 7 CLK, 8 VCC

## TLC5971
designator D?
12-Channel, 16-Bit, Enhanced Spectrum, PWM, RGB, LED Driver With 3.3-V  Linear Regulator; Manufacturer: TI; ManufacturerPartNumber: TLC5971; ComponentLink1URL: http://www.ti.com/lit/ds/symlink/tlc5971.pdf; ComponentLink1Description: Datasheet; Note: *; Price: *; Supplier: *
footprint TLC5971 (TSOP, 20-Leads, Body 6,50x4,40mm, Pitch 0,65mm, IPC High Density)
part A pins: 0 ThermalPad hidden to GND, 1 IREF, 2 GND, 19 VCC, 20 VREG
part B pins: 9 SDTI, 10 SCKI, 11 SCKO, 12 SDTO
part C pins: 3 OUTR0, 4 OUTG0, 5 OUTB0, 6 OUTR1, 7 OUTG1, 8 OUTB1, 13 OUTR2, 14 OUTG2, 15 OUTB2, 16 OUTR3, 17 OUTG3, 18 OUTB3

## USB3300-EZK
designator DD?
USB 2.0 ULPI PHY W/OTG; Manufacturer: MICROCHIP; Supplier 1: Farnell; ManufacturerPartNumber: USB3300-EZK; RoHS: YES; Stock 1: 2379; Pricing 1: 1=1,15, 10=1,12, 25=0,886, 50=0,82, 100=0,752 (GBP); ComponentLink1URL: http://www.farnell.com/datasheets/2244569.pdf; ComponentLink1Description: http://www.farnell.com/datasheets/2244569.pdf; ComponentLink2URL: http://www.farnell.com/cad/1727167.zip; ComponentLink2Description: http://www.farnell.com/cad/1727167.zip; ComponentLink3URL: http://www.farnell.com/datasheets/2158585.pdf; ComponentLink3Description: http://www.farnell.com/datasheets/2158585.pdf; Supplier Part Number 1: 2292614